# Altium footprint library Footprints.PcbLib: 13 footprints
Each footprint in its own frame and in the unit in brackets; x right, y up, seen from the top. Pads: shape width x height; smd on the part's side, far side on the other; paste and mask are expansions set on the pad; w line width, h text height; cw(c..) or ccw(c..) is an arc to the next point about the centre after c.
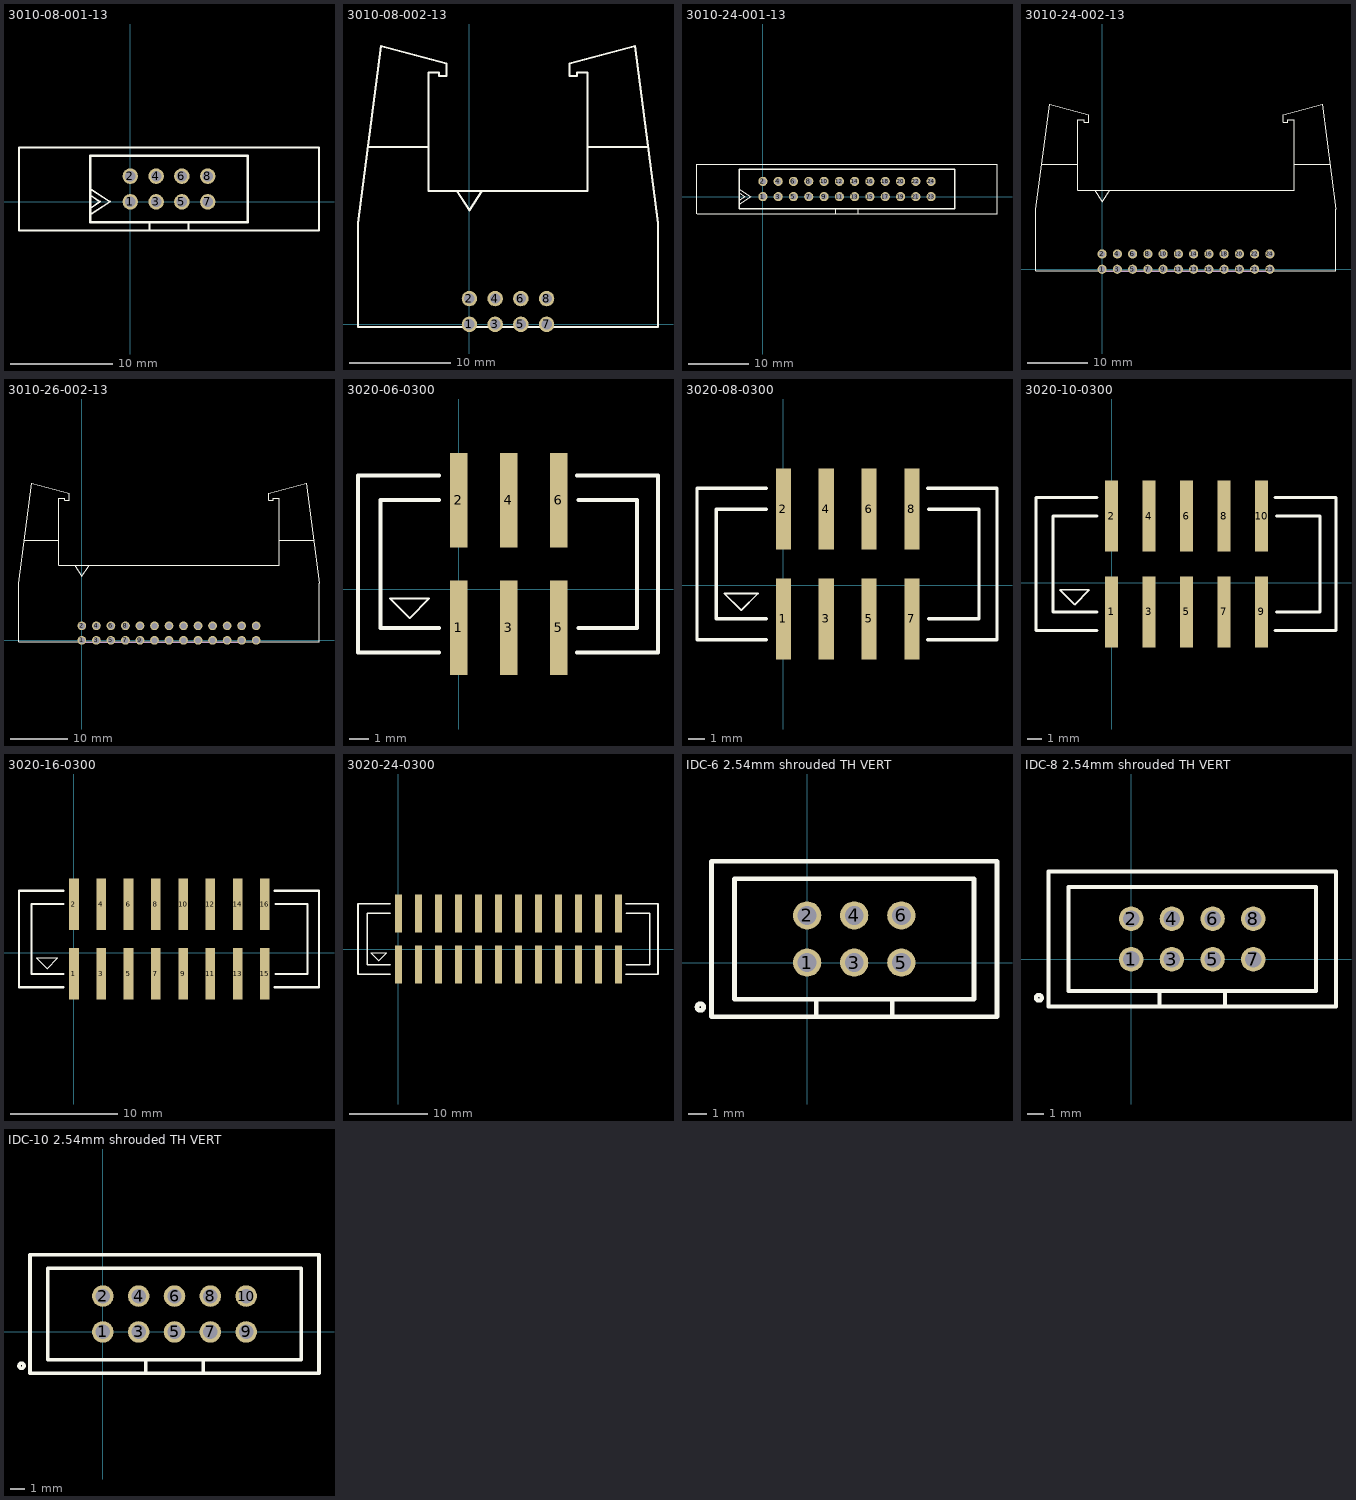
[diagram p0: the footprints below, top view; thin cyan lines are the x and y axes]

## 3010-08-001-13 [mil]
height 1094.49
pads (8):
  round 60 hole 40.16: 1(0,0) 2(0,100) 3(100,0) 4(100,100) 5(200,0) 6(200,100) 7(300,0) 8(300,100)
Top Overlay:
  lines w7.87: -154.13,-48.43 -78.15,0.79 -154.13,50 ; -154.13,-24.21 -117.72,0.79 -154.13,25.79 ; 75,-111.42 75,-77.95 ; 225,-111.42 225,-77.95 ; -430.71,-111.42 -430.71,211.42 730.71,211.42 730.71,-111.42 -430.71,-111.42
  lines w10: -154.13,-77.95 -154.13,177.95 150,177.95 454.13,177.95 454.13,-77.95 150,-77.95 -154.13,-77.95

## 3010-08-002-13 [mil] "3010-08-002-13"
height 322.83
pads (8):
  round 60 hole 40.16: 1(0,0) 2(0,100) 3(100,0) 4(100,100) 5(200,0) 6(200,100) 7(300,0) 8(300,100)
Top Overlay:
  lines w7.87: -393.7,688.98 -158.66,688.98 ; -49.21,518.9 0,442.91 49.21,518.9 ; 458.66,688.98 693.7,688.98 ; -433.07,-9.84 733.07,-9.84 733.07,393.7 644.49,1081.89 388.58,1013.78 388.58,964.57 418.11,964.57 418.11,979.53 458.66,979.53 458.66,656.69 458.66,518.9 -158.66,518.9 -158.66,656.69 -158.66,979.53 -118.11,979.53 -118.11,964.57 -88.58,964.57 -88.58,1013.78 -344.49,1081.89 -433.07,393.7 -433.07,-9.84

## 3010-24-001-13 [mil]
pads (24):
  round 60 hole 40.16: 1(0,0) 2(0,100) 3(100,0) 4(100,100) 5(200,0) 6(200,100) 7(300,0) 8(300,100) 9(400,0) 10(400,100) 11(500,0) 12(500,100) 13(600,0) 14(600,100) 15(700,0) 16(700,100) 17(800,0) 18(800,100) 19(900,0) 20(900,100) 21(1000,0) 22(1000,100) 23(1100,0) 24(1100,100)
Top Overlay:
  lines w7.87: -154.13,-48.43 -78.15,0.79 -154.13,50 ; -154.13,-24.21 -117.72,0.79 -154.13,25.79 ; 475,-111.42 475,-77.95 ; 625,-111.42 625,-77.95 ; -430.71,-111.42 1530.71,-111.42 1530.71,211.42 -430.71,211.42 -430.71,-111.42
  lines w10: -154.13,-77.95 1254.13,-77.95 1254.13,177.95 -154.13,177.95 -154.13,-77.95

## 3010-24-002-13 [mil] "3010-24-002-13"
height 322.83
pads (24):
  round 60 hole 40.16: 1(0,0) 2(0,100) 3(100,0) 4(100,100) 5(200,0) 6(200,100) 7(300,0) 8(300,100) 9(400,0) 10(400,100) 11(500,0) 12(500,100) 13(600,0) 14(600,100) 15(700,0) 16(700,100) 17(800,0) 18(800,100) 19(900,0) 20(900,100) 21(1000,0) 22(1000,100) 23(1100,0) 24(1100,100)
Top Overlay:
  lines w7.87: -393.7,688.98 -158.66,688.98 ; -49.21,518.9 0,442.91 49.21,518.9 ; 509.45,-9.84 1533.07,-9.84 1533.07,393.7 1444.49,1081.89 1188.58,1013.78 1188.58,964.57 1218.11,964.57 1218.11,979.53 1258.66,979.53 1258.66,656.69 1258.66,518.9 509.45,518.9 ; 590.55,-9.84 -433.07,-9.84 -433.07,393.7 -344.49,1081.89 -88.58,1013.78 -88.58,964.57 -118.11,964.57 -118.11,979.53 -158.66,979.53 -158.66,656.69 -158.66,518.9 590.55,518.9 ; 1258.66,688.98 1493.7,688.98
Mechanical 1:
  lines w1.97: 0,-12.6 1100,-12.6

## 3010-26-002-13 [mil] "3010-26-002-13"
height 322.83
pads (26):
  round 60 hole 40.16: 1(0,0) 2(0,100) 3(100,0) 4(100,100) 5(200,0) 6(200,100) 7(300,0) 8(300,100) 9(400,0) 10(400,100) 11(500,0) 12(500,100) 13(600,0) 14(600,100) 15(700,0) 16(700,100) 17(800,0) 18(800,100) 19(900,0) 20(900,100) 21(1000,0) 22(1000,100) 23(1100,0) 24(1100,100) 25(1200,0) 26(1200,100)
Top Overlay:
  lines w7.87: -393.7,688.98 -158.66,688.98 ; -49.21,518.9 0,442.91 49.21,518.9 ; 509.45,-9.84 1633.07,-9.84 1633.07,393.7 1544.49,1081.89 1288.58,1013.78 1288.58,964.57 1318.11,964.57 1318.11,979.53 1358.66,979.53 1358.66,656.69 1358.66,518.9 509.45,518.9 ; 590.55,-9.84 -433.07,-9.84 -433.07,393.7 -344.49,1081.89 -88.58,1013.78 -88.58,964.57 -118.11,964.57 -118.11,979.53 -158.66,979.53 -158.66,656.69 -158.66,518.9 590.55,518.9 ; 1358.66,688.98 1593.7,688.98
Mechanical 1:
  lines w1.97: 0,-12.6 1100,-12.6

## 3020-06-0300 [mm] "IDC-6 2.54mm shrouded SMD VERT CNC Tech"
height 9.8
pads (6):
  rect 0.89x4.8 smd: 1(0,-1.98) 2(0,4.52) 3(2.54,-1.98) 4(2.54,4.52) 5(5.08,-1.98) 6(5.08,4.52)
Top Overlay:
  lines w0.1: -3.5,-0.48 -2.5,-1.48 -1.5,-0.48 -3.5,-0.48
  lines w0.2: -1,-3.23 -5.12,-3.23 -5.12,5.77 -1,5.77 ; -1,-1.98 -3.97,-1.98 -3.97,4.52 -1,4.52 ; 6,-3.23 10.12,-3.23 10.12,5.77 6,5.77 ; 6.08,-1.98 9.05,-1.98 9.05,4.52 6.08,4.52
3D body "SBH11-_ _ _C-D03-SM-_ _.STEP": height 10.63, standoff 0.01, extent -5.02,-3.95 10.1,6.35

## 3020-08-0300 [mm] "IDC-8 2.54mm shrouded SMD VERT CNC Tech"
height 9.8
pads (8):
  rect 0.89x4.8 smd: 1(0,-1.98) 2(0,4.52) 3(2.54,-1.98) 4(2.54,4.52) 5(5.08,-1.98) 6(5.08,4.52) 7(7.62,-1.98) 8(7.62,4.52)
Top Overlay:
  lines w0.1: -3.5,-0.48 -1.5,-0.48 -2.5,-1.48 -3.5,-0.48
  lines w0.2: -1,-3.23 -5.12,-3.23 -5.12,5.77 -1,5.77 ; -1,-1.98 -3.97,-1.98 -3.97,4.52 -1,4.52 ; 8.54,-3.23 12.66,-3.23 12.66,5.77 8.54,5.77 ; 8.62,-1.98 11.59,-1.98 11.59,4.52 8.62,4.52
3D body "SBH11-_ _ _C-D04-SM-_ _.STEP": height 10.63, standoff 0.01, extent -5.02,-3.95 12.64,6.35

## 3020-10-0300 [mm] "IDC-10 2.54mm shrouded SMD VERT CNC Tech"
height 9.8
pads (10):
  rect 0.89x4.8 smd: 1(0,-1.98) 2(0,4.52) 3(2.54,-1.98) 4(2.54,4.52) 5(5.08,-1.98) 6(5.08,4.52) 7(7.62,-1.98) 8(7.62,4.52) 9(10.16,-1.98) 10(10.16,4.52)
Top Overlay:
  lines w0.1: -3.5,-0.48 -2.5,-1.48 -1.5,-0.48 -3.5,-0.48
  lines w0.2: -1,-3.23 -5.12,-3.23 -5.12,5.77 -1,5.77 ; -1,-1.98 -3.97,-1.98 -3.97,4.52 -1,4.52 ; 11.08,-3.23 15.2,-3.23 15.2,5.77 11.08,5.77 ; 11.16,-1.98 14.13,-1.98 14.13,4.52 11.16,4.52
3D body "SBH11-_ _ _C-D05-SM-_ _.STEP": height 10.63, standoff 0.01, extent -5.02,-3.95 15.18,6.35

## 3020-16-0300 [mm] "IDC-16 2.54mm shrouded SMD VERT CNC Tech"
height 9.8
pads (16):
  rect 0.89x4.8 smd: 1(0,-1.98) 2(0,4.52) 3(2.54,-1.98) 4(2.54,4.52) 5(5.08,-1.98) 6(5.08,4.52) 7(7.62,-1.98) 8(7.62,4.52) 9(10.16,-1.98) 10(10.16,4.52) 11(12.7,-1.98) 12(12.7,4.52) 13(15.24,-1.98) 14(15.24,4.52) 15(17.78,-1.98) 16(17.78,4.52)
Top Overlay:
  lines w0.1: -3.5,-0.48 -1.5,-0.48 -2.5,-1.48 -3.5,-0.48
  lines w0.2: -1,-3.23 -5.12,-3.23 -5.12,5.77 -1,5.77 ; -1,-1.98 -3.97,-1.98 -3.97,4.52 -1,4.52 ; 18.7,-3.23 22.82,-3.23 22.82,5.77 18.7,5.77 ; 18.78,-1.98 21.75,-1.98 21.75,4.52 18.78,4.52
3D body "SBH11-_ _ _C-D08-SM-_ _.STEP": height 10.65, standoff 0.03, extent -5.02,-3.95 22.8,6.35

## 3020-24-0300 [mm] "IDC-16 2.54mm shrouded SMD VERT CNC Tech"
height 9.8
pads (24):
  rect 0.89x4.8 smd: 1(0,-1.98) 2(0,4.52) 3(2.54,-1.98) 4(2.54,4.52) 5(5.08,-1.98) 6(5.08,4.52) 7(7.62,-1.98) 8(7.62,4.52) 9(10.16,-1.98) 10(10.16,4.52) 11(12.7,-1.98) 12(12.7,4.52) 13(15.24,-1.98) 14(15.24,4.52) 15(17.78,-1.98) 16(17.78,4.52) 17(20.32,-1.98) 18(20.32,4.52) 19(22.86,-1.98) 20(22.86,4.52) 21(25.4,-1.98) 22(25.4,4.52) 23(27.94,-1.98) 24(27.94,4.52)
Top Overlay:
  lines w0.1: -3.5,-0.48 -2.5,-1.48 -1.5,-0.48 -3.5,-0.48
  lines w0.2: -1,-3.23 -5.12,-3.23 -5.12,5.77 -1,5.77 ; -1,-1.98 -3.97,-1.98 -3.97,4.52 -1,4.52 ; 28.86,-3.23 32.98,-3.23 32.98,5.77 28.86,5.77 ; 28.94,-1.98 31.91,-1.98 31.91,4.52 28.94,4.52
3D body "SBH11-_ _ _C-D12-SM-_ _.STEP": height 10.63, standoff 0.01, extent -5.02,-3.95 32.96,6.35

## IDC-6 2.54mm shrouded TH VERT [mil] "IDC-6 2.54mm shrouded TH VERT"
height 366.14
pads (6):
  round 60 hole 40.16: 1(0,0) 2(0,100) 3(100,0) 4(100,100) 5(200,0) 6(200,100)
Top Overlay:
  circle w10: c-226.77,-94.49 r7.07
  lines w10: 19.29,-115.35 19.29,-77.95 ; 180.71,-115.35 180.71,-77.95 ; 19.29,-77.95 -154.13,-77.95 -154.13,177.95 354.13,177.95 354.13,-77.95 180.71,-77.95 ; 19.29,-77.95 180.71,-77.95 ; -203.15,-115.35 -203.15,215.35 403.15,215.35 403.15,-115.35 -203.15,-115.35
3D body "IDC-06M TH VERT.STEP": height 362.2, standoff -118.11, extent -199.99,-126.18 400.01,245.87

## IDC-8 2.54mm shrouded TH VERT [mil] "IDC-8 2.54mm shrouded TH VERT"
height 366.14
pads (8):
  round 60 hole 40.16: 1(0,0) 2(0,100) 3(100,0) 4(100,100) 5(200,0) 6(200,100) 7(300,0) 8(300,100)
Top Overlay:
  circle w10: c-226.77,-94.49 r7.07
  lines w10: 69.29,-115.35 69.29,-77.95 ; 225,-77.95 454.13,-77.95 454.13,177.95 -154.13,177.95 -154.13,-77.95 69.29,-77.95 ; 230.71,-115.35 230.71,-77.95 69.29,-77.95 ; -203.15,-115.35 -203.15,215.35 503.15,215.35 503.15,-115.35 -203.15,-115.35

## IDC-10 2.54mm shrouded TH VERT [mil] "IDC-10 2.54mm shrouded TH VERT"
pads (10):
  round 60 hole 40.16: 1(0,0) 2(0,100) 3(100,0) 4(100,100) 5(200,0) 6(200,100) 7(300,0) 8(300,100) 9(400,0) 10(400,100)
Top Overlay:
  circle w10: c-226.77,-94.49 r7.07
  lines w10: 119.29,-115.35 119.29,-77.95 ; 280.71,-115.35 280.71,-77.95 ; 119.29,-77.95 280.71,-77.95 ; 119.29,-77.95 -154.13,-77.95 -154.13,177.95 554.13,177.95 554.13,-77.95 280.71,-77.95 ; -203.15,-115.35 -203.15,215.35 603.15,215.35 603.15,-115.35 -203.15,-115.35
3D body "IDC-10M TH VERT.STEP": height 366.14, standoff -122.05, extent -199.6,-123.22 599.61,235.05